# Altium footprint library Kobiconn_Library.PcbLib: 3 footprints
Each footprint in its own frame and in the unit in brackets; x right, y up, seen from the top. Pads: shape width x height; smd on the part's side, far side on the other; paste and mask are expansions set on the pad; w line width, h text height; cw(c..) or ccw(c..) is an arc to the next point about the centre after c.

## Kobiconn 151-8010-E (Black) [mm]
3D body "Kobiconn_Jumper_151-8010-E.x_t": height 3.21, standoff -3.21, extent -2.49,-1.195 2.49,1.195

## Kobiconn 151-8011-E (Blue) [mm]
3D body "Kobiconn_Jumper_151-8011-E.x_t": height 3.21, standoff -3.21, extent -2.49,-1.195 2.49,1.195

## Kobiconn 151-8013-E (Red) [mm]
3D body "Kobiconn_Jumper_151-8013-E.x_t": height 3.21, standoff -3.21, extent -2.49,-1.195 2.49,1.195